# Altium integrated library SAMTEC-TSM-104-01-X-DV-A.IntLib: 1 symbol
Pins are listed as number, name and electrical type; pins without a type are passive.

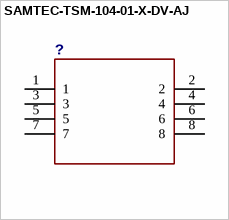
[diagram p0: symbol SAMTEC-TSM-104-01-X-DV-AJ]

## SAMTEC-TSM-104-01-X-DV-AJ
designator ?
GateName_1: A; SymbolName_1: SAMTEC-TSM-104-01-X-DV-AA; DeviceName: J; DeviceSetName: SAMTEC-TSM-104-01-X-DV-A; LibraryName: SAMTEC-TSM-104-01-X-DV-A; Package: SAMTEC-TSM-104-01-X-DV-A
footprint SAMTEC-TSM-104-01-X-DV-A
pins: 1, 2, 3, 4, 5, 6, 7, 8